# Altium schematic symbol library LD1117AS33TR.Schlib: 1 symbol
Pins are listed as number, name and electrical type; pins without a type are passive.

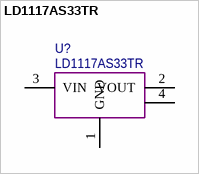
[diagram p0: symbol LD1117AS33TR]

## LD1117AS33TR
designator U?
Low-Dropout Positive Voltage Regulator
pins: 1 GND (power), 2 VOUT (power), 3 VIN (power), 4 VOUT (power)